# Altium footprint library EMK212BB7475MD-T.PcbLib: 1 footprints
Each footprint in its own frame and in the unit in brackets; x right, y up, seen from the top. Pads: shape width x height; smd on the part's side, far side on the other; paste and mask are expansions set on the pad; w line width, h text height; cw(c..) or ccw(c..) is an arc to the next point about the centre after c.
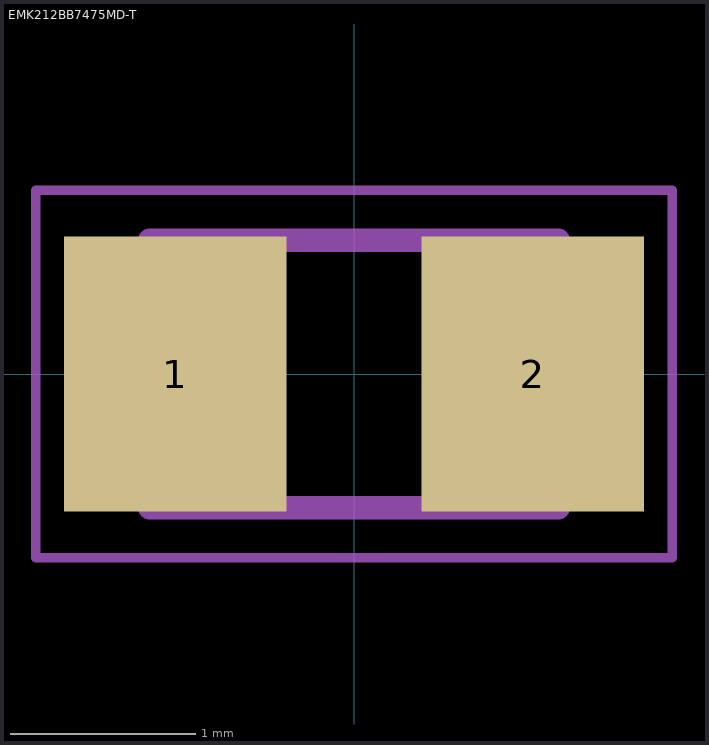
[diagram p0: the footprint, top view; thin cyan lines are the x and y axes]

## EMK212BB7475MD-T [mm]
pads (2):
  rect 1.2x1.48 smd: 1(-0.963,0) 2(0.963,0)
Mechanical 13:
  lines w0.127: -1.1,-0.72 -1.1,0.72 1.1,0.72 1.1,-0.72 -1.1,-0.72
Mechanical 15:
  lines w0.05: -1.715,-0.99 -1.715,0.99 1.715,0.99 1.715,-0.99 -1.715,-0.99
3D body "EMK212BB7475MD-T.STEP": height 0.95, standoff 0, extent -1,-0.625 1,0.625